# Altium schematic symbol library RFID_MODULE_S01.SchLib: 4 symbols
Pins are listed as number, name and electrical type; pins without a type are passive.

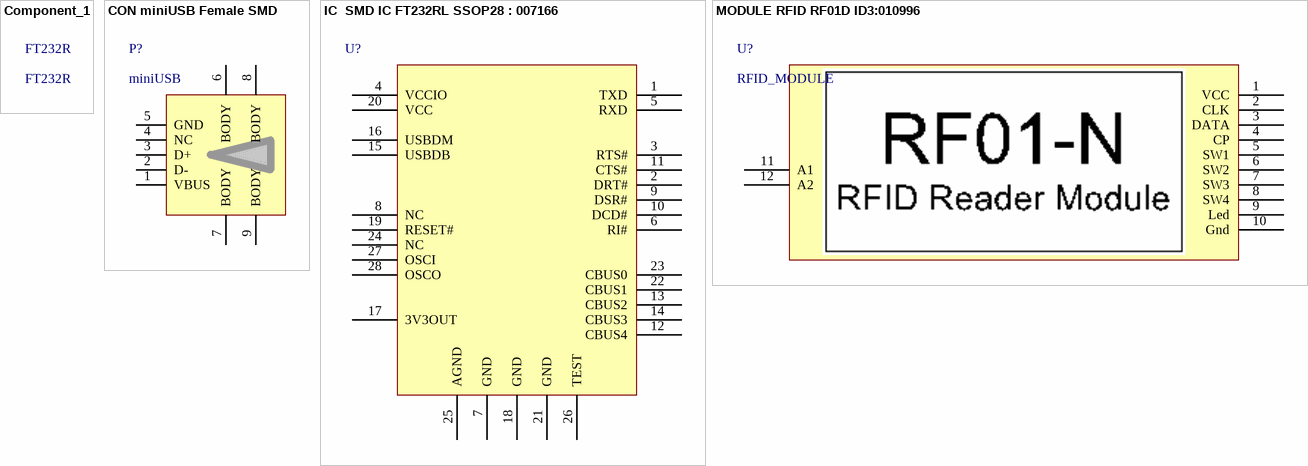
[diagram p0: symbols Component_1 to MODULE RFID RF01D ID3:010996]

## Component_1
designator FT232R, comment FT232R
footprint SMD IC SSOP28 (SSOP, 28-Leads , Pitch 0.65mm)

## CON miniUSB Female SMD
designator P?, comment miniUSB
footprint SMD USB B MINI (Connector; USB2.0, Type AB, SM; 5 Position; Right Angle 440479)
pins: 1 VBUS, 2 D-, 3 D+, 4 NC, 5 GND, 6 BODY, 7 BODY, 8 BODY, 9 BODY

## IC  SMD IC FT232RL SSOP28 : 007166
designator U?
FTDI, Future Technology Devices International Ltd USBmadeEZ-UART  Tape & Reel (TR)  3.3 V ~ 5.25 V  28-SSOP (0.209", 5.30mm Width)   15mA
footprint SMD IC SSOP28 (SSOP, 28-Leads , Pitch 0.65mm)
pins: 1 TXD, 2 DRT#, 3 RTS#, 4 VCCIO, 5 RXD, 6 RI#, 7 GND, 8 NC, 9 DSR#, 10 DCD#, 11 CTS#, 12 CBUS4, 13 CBUS2, 14 CBUS3, 15 USBDB, 16 USBDM, 17 3V3OUT, 18 GND, 19 RESET#, 20 VCC, 21 GND, 22 CBUS1, 23 CBUS0, 24 NC, 25 AGND, 26 TEST, 27 OSCI, 28 OSCO

## MODULE RFID RF01D ID3:010996
designator U?, comment RFID_MODULE
(Min) Operating Supply Voltage 5 V / Type RFID Reader / Brand CHINA / Package Module / RFID Reader 125kHz MODULE + MEMORY
footprint PCBComponent_1
pins: 1 VCC, 2 CLK, 3 DATA, 4 CP, 5 SW1, 6 SW2, 7 SW3, 8 SW4, 9 Led, 10 Gnd, 11 A1, 12 A2